# EAGLE library part CARD_EDGE_CONNECTOR_26 (library 1dah)
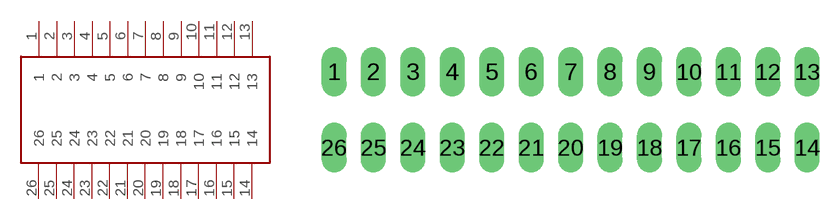
[diagram p52: symbol with the pads of CARD_EDGE_CONNECTOR_26; footprint CARD_EDGE_CONNECTOR_26]

Designator prefix -

## CARD_EDGE_CONNECTOR_26  [CARD_EDGE_CONNECTOR_26]
1  1
2  2
3  3
4  4
5  5
6  6
7  7
8  8
9  9
10  10
11  11
12  12
13  13
14  14
15  15
16  16
17  17
18  18
19  19
20  20
21  21
22  22
23  23
24  24
25  25
26  26

## Footprint CARD_EDGE_CONNECTOR_26 (pad centres in mm)
drill 1.067 long: 1 -15.24,2.438; 2 -12.7,2.438; 3 -10.16,2.438; 4 -7.62,2.438; 5 -5.08,2.438; 6 -2.54,2.438; 7 0,2.438; 8 2.54,2.438; 9 5.08,2.438; 10 7.62,2.438; 11 10.16,2.438; 12 12.7,2.438; 13 15.24,2.438; 14 15.24,-2.438; 15 12.7,-2.438; 16 10.16,-2.438; 17 7.62,-2.438; 18 5.08,-2.438; 19 2.54,-2.438; 20 0,-2.438; 21 -2.54,-2.438; 22 -5.08,-2.438; 23 -7.62,-2.438; 24 -10.16,-2.438; 25 -12.7,-2.438; 26 -15.24,-2.438